# EAGLE library part MS5611 (library custom-devices)
Pressure Sensor
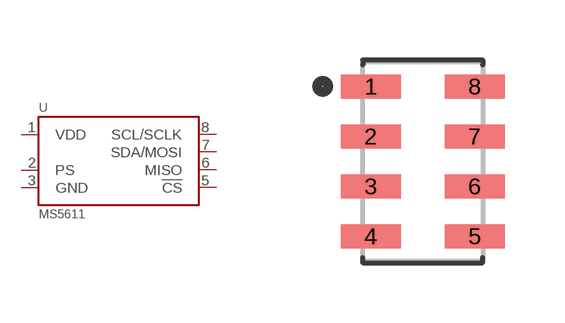
[diagram p7: symbol with the pads of MS5611; footprint MS5611]

Designator prefix U

## MS5611 (DIGI-KEY: 223-1622-2-ND; FARNELL: 2362662; MOUSER: 824-MS561101BA03-50)  [MS5611]
1  VDD  pwr
2  PS  pas
3  GND  pwr
5  !CS
6  MISO
7  SDA/MOSI
8  SCL/SCLK

## Footprint MS5611 (pad centres in mm)
smd 1.5 x 0.6: 1 -1.3,1.875; 2 -1.3,0.625; 3 -1.3,-0.625; 4 -1.3,-1.875; 5 1.3,-1.875; 6 1.3,-0.625; 7 1.3,0.625; 8 1.3,1.875